# EAGLE library part CSD88537ND (library CSD88537ND)
60-V Dual N-Channel NexFET Power MOSFET, CSD88537ND Source: Datasheet <http://www.ti.com/lit/gpn/csd88537nd>
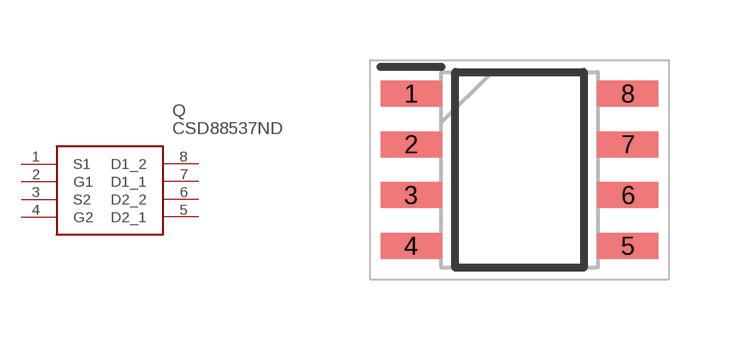
[diagram p0: symbol with the pads of SOIC127P600X175-8N; footprint SOIC127P600X175-8N]

Designator prefix Q

## CSD88537ND (Arrow_Part_Number: CSD88537ND; Arrow_Price-Stock: https://www.arrow.com/en/products/csd88537nd/texas-instruments?region=nac; Description: 60-V Dual N-Channel NexFET Power MOSFET, CSD88537ND; Height: 1.75mm; Manufacturer_Name: Texas Instruments; Manufacturer_Part_Number: CSD88537ND; Mouser_Part_Number: 595-CSD88537ND; Mouser_Price-Stock: https://www.mouser.co.uk/ProductDetail/Texas-Instruments/CSD88537ND?qs=7wMBv%2Ftbz9KkQ3rfcHocDA%3D%3D)  [SOIC127P600X175-8N]
1  S1
2  G1
3  S2
4  G2
5  D2_1
6  D2_2
7  D1_1
8  D1_2

## Footprint SOIC127P600X175-8N (pad centres in mm)
so-8-ren1
smd 1.525 x 0.65: 1 -2.712,1.905; 2 -2.712,0.635; 3 -2.712,-0.635; 4 -2.712,-1.905; 5 2.712,-1.905; 6 2.712,-0.635; 7 2.712,0.635; 8 2.712,1.905